# Altium footprint library Inductors Wirewound.PcbLib: 8 footprints
Each footprint in its own frame and in the unit in brackets; x right, y up, seen from the top. Pads: shape width x height; smd on the part's side, far side on the other; paste and mask are expansions set on the pad; w line width, h text height; cw(c..) or ccw(c..) is an arc to the next point about the centre after c.
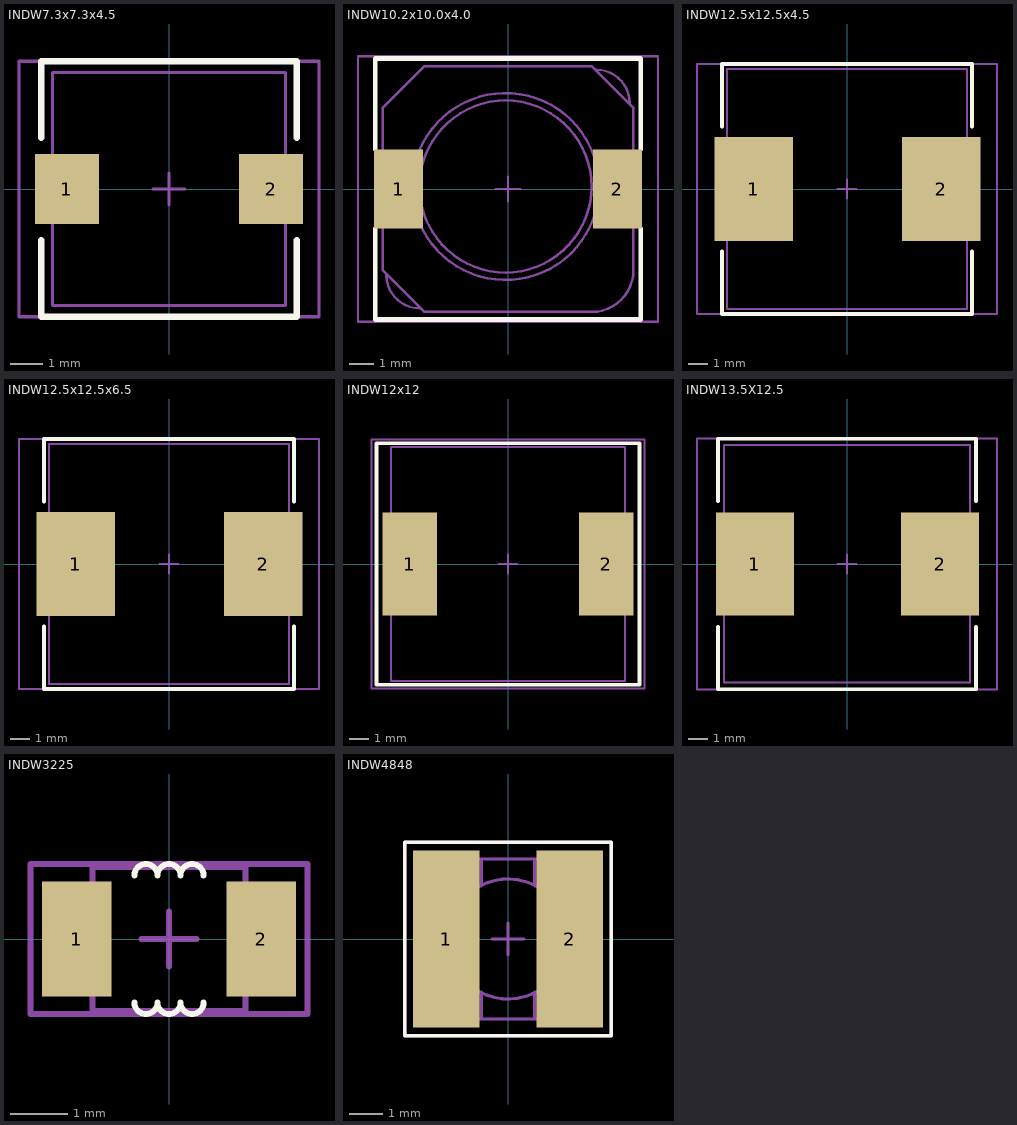
[diagram p0: the footprints below, top view; thin cyan lines are the x and y axes]

## INDW7.3x7.3x4.5 [mm]
height 4.5
pads (2):
  rect 2x2.2 smd: 1(-3.2,0) 2(3.2,0)
Top Overlay:
  lines w0.2: -4,-1.6 -4,-4 4,-4 4,-1.6 ; -4,1.6 -4,4 4,4 4,1.6
Top Package:
  lines w0.1: -3.65,-0.85 -2.5,-0.85 -2.5,0.85 -3.65,0.85 ; 3.65,-0.85 2.5,-0.85 2.5,0.85 3.65,0.85 ; -3.65,-3.65 -3.65,3.65 3.65,3.65 3.65,-3.65 -3.65,-3.65
Top Border:
  lines w0.1: -0.5,0 0.5,0 ; 0,-0.5 0,0.5 ; -4.7,-4 4.7,-4 4.7,4 -4.7,4 -4.7,-4
3D body "User Library-DE0704.step": height 4.5, standoff 0, extent -3.65,-3.66 3.65,3.64

## INDW10.2x10.0x4.0 [mm]
height 4.5
pads (2):
  rect 2x3.2 smd: 1(-4.45,0) 2(4.45,0)
Top Overlay:
  lines w0.2: -5.4,-1.6 -5.4,-5.3 5.4,-5.3 5.4,-1.6 ; -5.4,1.6 -5.4,5.3 5.4,5.3 5.4,1.6
Top Package:
  circle w0.1: c-0.1,0.1 r3.8
  circle w0.1: c-0.1,0.1 r3.5
  lines w0.1: -5.1,-1.5 -3.9,-1.5 -3.9,1.5 -5.1,1.5 ; -4.954,-3.48 ccw(c-3.58,-3.48) -3.58,-4.854 ; 3.58,4.854 cw(c3.58,3.48) 4.954,3.48 ; 5.1,-1.5 3.9,-1.5 3.9,1.5 5.1,1.5 ; -5.1,-3.3 -5.1,3.3 -3.4,5 3.4,5 5.1,3.3 5.1,-3.3 cw(c3.4,-3.3) 3.4,-5 -3.4,-5 -5.1,-3.3
Top Border:
  lines w0.1: -0.5,0 0.5,0 ; 0,-0.5 0,0.5 ; -6.1,-5.4 -6.1,5.4 6.1,5.4 6.1,-5.4 -6.1,-5.4
3D body "User Library-cdrh104r.STEP": height 4, standoff 0, extent -5.2,-5.15 5.3,5.15

## INDW12.5x12.5x4.5 [mm]
height 4.5
pads (2):
  rect 4.1x5.4 smd: 1(-4.85,0) 2(4.9,0)
Top Overlay:
  lines w0.2: -6.5,-3.25 -6.5,-6.5 6.5,-6.5 6.5,-3.25 ; -6.5,3.25 -6.5,6.5 6.5,6.5 6.5,3.25
Top Package:
  lines w0.1: -6.25,-2.475 -3.6,-2.475 -3.6,2.45 -6.25,2.45 ; 6.25,-2.475 3.6,-2.475 3.6,2.45 6.25,2.45 ; -6.25,-6.25 -6.25,6.25 6.25,6.25 6.25,-6.25 -6.25,-6.25
Top Border:
  lines w0.1: -0.5,0 0.5,0 ; 0,-0.5 0,0.5 ; -7.8,-6.5 7.8,-6.5 7.8,6.5 -7.8,6.5 -7.8,-6.5
3D body "srr1240.stp": height 4, standoff 0, extent -6.25,-6.26 6.25,6.24

## INDW12.5x12.5x6.5 [mm]
height 6.5
pads (2):
  rect 4.1x5.4 smd: 1(-4.85,0) 2(4.9,0)
Top Overlay:
  lines w0.2: -6.5,-3.25 -6.5,-6.5 6.5,-6.5 6.5,-3.25 ; -6.5,3.25 -6.5,6.5 6.5,6.5 6.5,3.25
Top Package:
  lines w0.1: -6.25,-2.475 -3.6,-2.475 -3.6,2.45 -6.25,2.45 ; 6.25,-2.475 3.6,-2.475 3.6,2.45 6.25,2.45 ; -6.25,-6.25 -6.25,6.25 6.25,6.25 6.25,-6.25 -6.25,-6.25
Top Border:
  lines w0.1: -0.5,0 0.5,0 ; 0,-0.5 0,0.5 ; -7.8,-6.5 7.8,-6.5 7.8,6.5 -7.8,6.5 -7.8,-6.5
3D body "Power Inductor SRR1280.stp": height 6, standoff 0, extent -6.25,-6.26 6.25,6.24

## INDW12x12 [mm]
height 10
pads (2):
  rect 2.8x5.3 smd: 1(-5.05,0) 2(5.05,0)
Top Overlay:
  lines w0.2: -6.75,-6.2 -6.75,6.2 6.75,6.2 6.75,-6.2 -6.75,-6.2
Top Package:
  lines w0.1: -6,-6 -6,6 6,6 6,-6 -6,-6
Top Border:
  lines w0.1: -0.5,0 0.5,0 ; 0,-0.5 0,0.5 ; -7,-6.4 7,-6.4 7,6.4 -7,6.4 -7,-6.4
3D body "Power Inductor SRR1210.step": height 7.95, standoff -0.05, extent -6,-6.01 6,5.99

## INDW13.5X12.5 [mm]
height 6.5
pads (2):
  rect 4.1x5.4 smd: 1(-4.85,0) 2(4.9,0)
Top Overlay:
  lines w0.2: -6.8,-3.3 -6.8,-6.6 6.8,-6.6 6.8,-3.3 ; -6.8,3.3 -6.8,6.6 6.8,6.6 6.8,3.3
Top Package:
  lines w0.1: -6.75,-2.375 -4,-2.375 -4,2.35 -6.75,2.35 -6.75,-2.375 ; -6.475,-6.25 6.475,-6.25 6.475,6.275 -6.475,6.275 -6.475,-6.25 ; 4,-2.375 6.75,-2.375 6.75,2.35 4,2.35 4,-2.375
Top Border:
  lines w0.1: -0.5,0 0.5,0 ; 0,-0.5 0,0.5 ; -7.9,-6.6 7.9,-6.6 7.9,6.6 -7.9,6.6 -7.9,-6.6
3D body "INDF13.5x12.5SSH.stp": height 6.35, standoff 0.05, extent -6.45,-6.235 6.45,6.265

## INDW3225 [mm] "Body 3.2x2.5mm"
height 2.4
pads (2):
  rect 1.2x2 smd: 1(-1.6,0) 2(1.6,0)
Top Overlay:
  lines w0.1: -0.6,-1.1 ccw(c-0.4,-1.1) -0.2,-1.1 ccw(c0,-1.1) 0.2,-1.1 ccw(c0.4,-1.1) 0.6,-1.1 ; -0.6,1.1 cw(c-0.4,1.1) -0.2,1.1 cw(c0,1.1) 0.2,1.1 cw(c0.4,1.1) 0.6,1.1
Top Package:
  lines w0.1: -1.4,-0.9 -1.6,-0.9 -1.6,0.9 -1.4,0.9 ; 1.4,-0.9 1.6,-0.9 1.6,0.9 1.4,0.9 ; -1.325,-1.25 1.325,-1.25 1.325,1.25 -1.325,1.25 -1.325,-1.25
Top Border:
  lines w0.1: -0.475,0 0.475,0 ; 0,-0.475 0,0.475 ; -2.4,-1.3 2.4,-1.3 2.4,1.3 -2.4,1.3 -2.4,-1.3
3D body "INDF3225.STEP": height 1.9, standoff 0, extent -1.6,-1.25 1.6,1.25

## INDW4848 [mm]
height 2.8
pads (2):
  rect 2x5.3 smd: 1(-1.85,0) 2(1.85,0)
Top Overlay:
  lines w0.1: -3.1,-2.9 3.1,-2.9 3.1,2.9 -3.1,2.9 -3.1,-2.9
Top Package:
  circle w0.1: c0,0 r1.8
  lines w0.1: -0.8,-2.4 -0.8,-1.6 ; -0.8,1.6 -0.8,2.4 ; 0.8,-2.4 0.8,-1.6 ; 0.8,1.6 0.8,2.4 ; -2.4,-2.4 -2.4,2.4 2.4,2.4 2.4,-2.4 -2.4,-2.4
Top Border:
  lines w0.1: -0.475,0 0.475,0 ; 0,-0.475 0,0.475 ; -3.1,-2.9 3.1,-2.9 3.1,2.9 -3.1,2.9 -3.1,-2.9
3D body "SRR4028.stp": height 2.9, standoff 0.1, extent -2.4,-2.374 2.4,2.426